# Altium footprint library connectors.PcbLib: 30 footprints (part 1 of 2)
Each footprint in its own frame and in the unit in brackets; x right, y up, seen from the top. Pads: shape width x height; smd on the part's side, far side on the other; paste and mask are expansions set on the pad; w line width, h text height; cw(c..) or ccw(c..) is an arc to the next point about the centre after c.
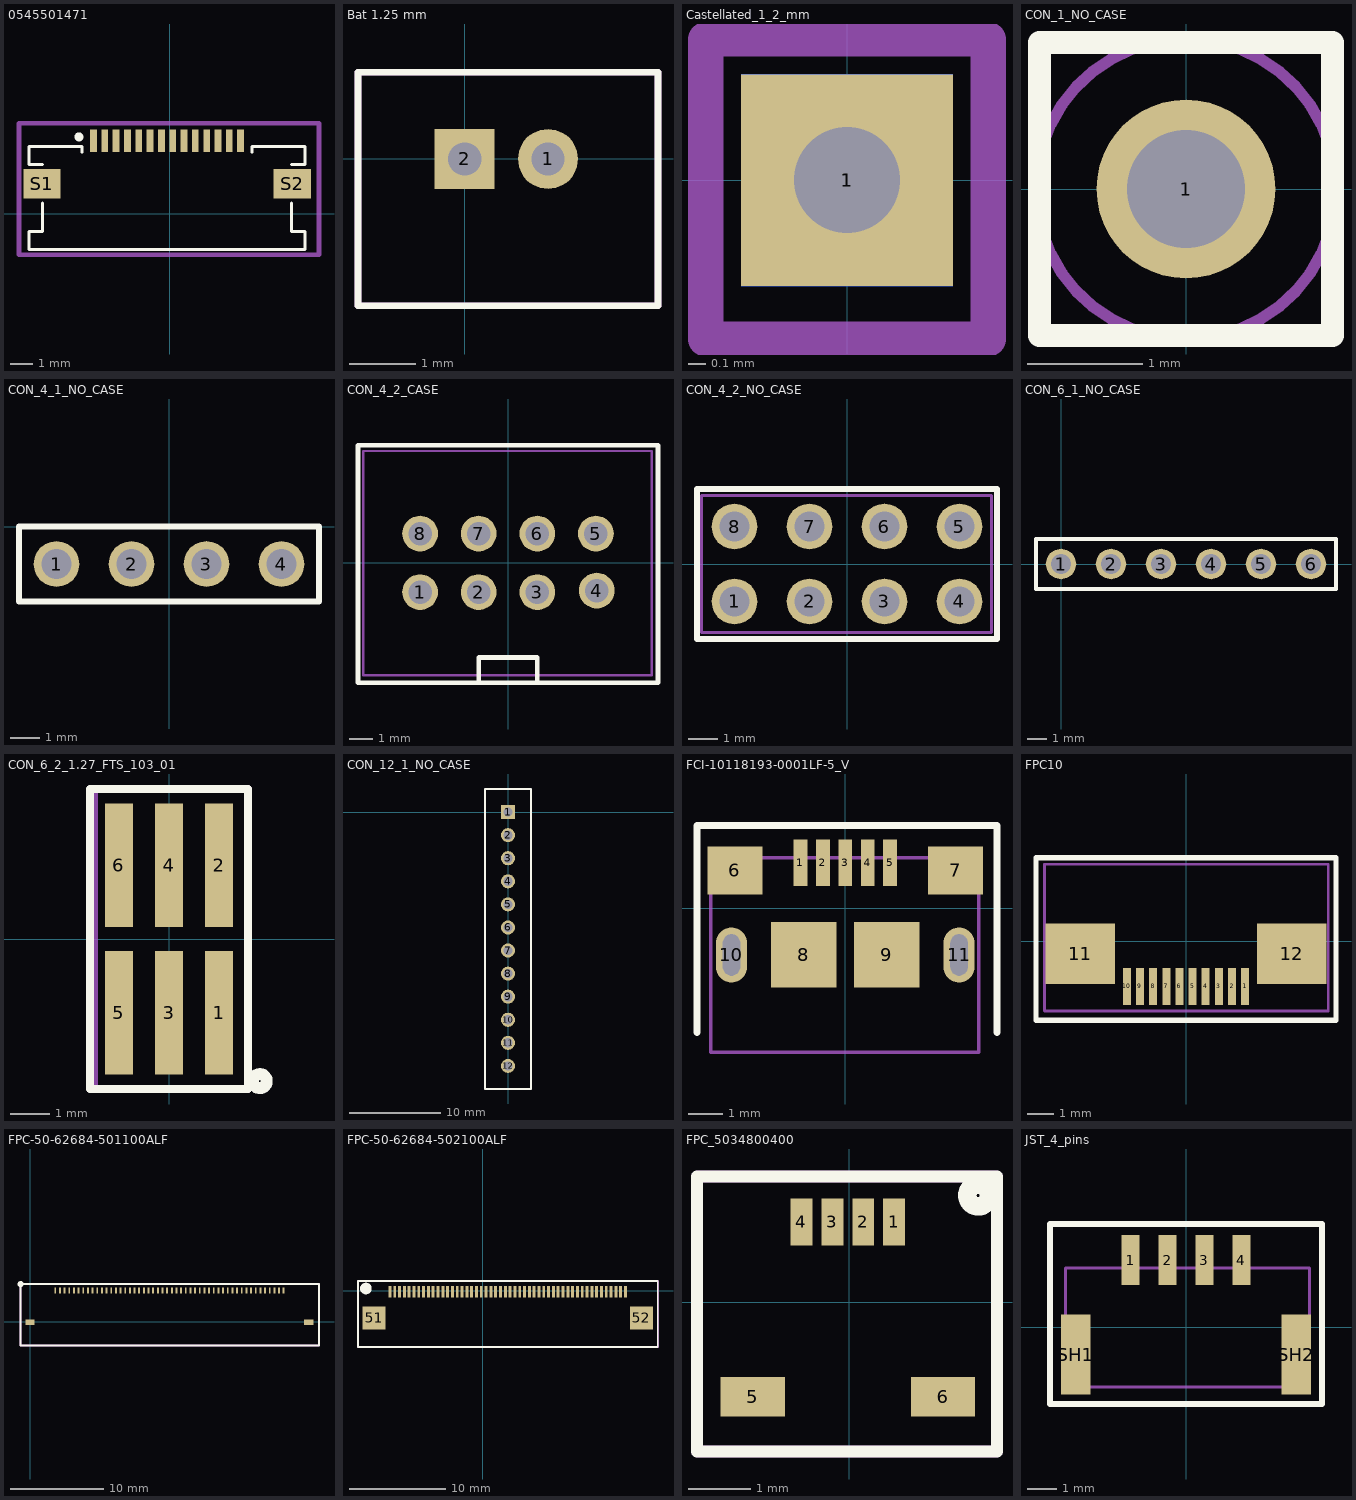
[diagram p0: the footprints below, top view; thin cyan lines are the x and y axes]

## 0545501471 [mm] "CONN FFC TOP 14POS 0.50MM R/A"
pads (16):
  rect 0.3x1 smd: 1(-3.362,3.224) 2(-2.862,3.224) 3(-2.362,3.224) 4(-1.862,3.224) 5(-1.362,3.224) 6(-0.862,3.224) 7(-0.362,3.224) 8(0.138,3.224) 9(0.638,3.224) 10(1.138,3.224) 11(1.638,3.224) 12(2.138,3.224) 13(2.638,3.224) 14(3.138,3.224)
  rect 1.65x1.3 smd: S1(-5.637,1.324) S2(5.413,1.324)
Top Overlay:
  circle w0.2: c-4,3.4 r0.1
  lines w0.127: -5.612,0.474 -5.612,-0.776 -6.212,-0.776 -6.212,-1.576 5.988,-1.576 5.988,-0.776 5.388,-0.776 5.388,0.474 ; -5.612,2.174 -6.212,2.174 -6.212,2.974 -3.862,2.974 -3.862,2.724 ; 3.638,2.724 3.638,2.974 5.988,2.974 5.988,2.174 5.388,2.174
Top Assembly:
  lines w0.2: -6.65,-1.8 6.6,-1.8 6.6,4 -6.65,4 -6.65,-1.8
  text ".Designator" at -4.5,0.4 h0.89
3D body "545501471.stp": height 1.2, standoff 0, extent -6.2,-1.65 6,3.35

## Bat 1.25 mm [mm] "JST LiPo Connector"
pads (2):
  round 0.9 hole 0.5: 1(1.25,0)
  rect 0.9x0.9 hole 0.5: 2(0,0)
Top Overlay:
  lines w0.1: -1.6,-2.2 -1.6,1.3 2.9,1.3 2.9,-2.2 -1.6,-2.2
Top Assembly:
  lines w0.1: -1.6,-2.2 -1.6,1.3 2.9,1.3 2.9,-2.2 -1.6,-2.2
  text ".Designator" at -0.9,-0.7 h0.89
3D body "530470210.stp": height 4.28, standoff -2.22, extent -1.475,-2.025 2.775,1.175

## Castellated_1_2_mm [mm] "Castellated 0.6 mm hole 1.2mm pad"
pads (2):
  rect 1.2x1.2 smd: 1(0,0)
  rect 1.2x1.2 smd far side: 1(0,0)
via 0,0 diameter 1.2 hole 0.6
Top Assembly:
  lines w0.2: -0.8,-0.9 -0.8,0.8 0.8,0.8 0.8,-0.9 -0.8,-0.9
  text ".Designator" at -0.4,-0.3 h0.89

## CON_1_NO_CASE [mm]
pads (1):
  round 1.55 hole 1.02: 1(0,0)
Top Overlay:
  lines w0.2: -1.27,-1.27 1.27,-1.27 1.27,1.27 -1.27,1.27 -1.27,-1.27
Top Assembly:
  circle w0.1: c0,0 r1.3
  text ".Designator" at -1,-0.2 h0.89

## CON_4_1_NO_CASE [mm] "connector 1 row 4 col (4 pos) 2.54 pitch"
pads (4):
  round 1.55 hole 1.02: 1(-3.81,-1.27) 2(-1.27,-1.27) 3(1.27,-1.27) 4(3.81,-1.27)
Top Overlay:
  lines w0.2: -5.08,-2.54 5.08,-2.54 5.08,0 -5.08,0 -5.08,-2.54
Top Assembly:
  lines w0.1: -5.08,-2.54 5.08,-2.54 5.08,0 -5.08,0 -5.08,-2.54
  text ".Designator" at -3.048,-1.524 h0.89

## CON_4_2_CASE [mm] "connector 2 row 4 col (8 pos) 2.54 pitch"
pads (8):
  round 1.55 hole 1.02: 1(-3.81,-1.27) 2(-1.27,-1.27) 3(1.27,-1.27) 4(3.846,-1.201) 5(3.81,1.27) 6(1.27,1.27) 7(-1.27,1.27) 8(-3.81,1.27)
Top Overlay:
  lines w0.2: -1.27,-5.116 -1.27,-4.1 1.27,-4.1 1.27,-5.116 ; -6.5,-5.2 -6.5,5.1 6.5,5.1 6.5,-5.2 -6.5,-5.2
Top Assembly:
  lines w0.1: -6.275,-4.875 6.225,-4.875 6.225,4.85 -6.275,4.85 -6.275,-4.875
  text ".Designator" at -3.85,-0.3 h0.89
3D body "901301208.stp": height 10.91, standoff -2.89, extent -6.266,-4.889 6.234,4.861

## CON_4_2_NO_CASE [mm] "connector 2 row 4 col (8 pos) 2.54 pitch"
pads (8):
  round 1.55 hole 1.02: 1(-3.81,-1.27) 2(-1.27,-1.27) 3(1.27,-1.27) 4(3.81,-1.27) 5(3.81,1.27) 6(1.27,1.27) 7(-1.27,1.27) 8(-3.81,1.27)
Top Overlay:
  lines w0.2: -5.08,-2.54 -5.08,2.54 5.08,2.54 5.08,-2.54 -5.08,-2.54
Top Assembly:
  lines w0.1: -4.925,-2.325 -4.925,2.325 4.9,2.325 4.9,-2.325 -4.925,-2.325
  text ".Designator" at -3.7,-0.3 h0.89

## CON_6_1_NO_CASE [mm] "connector 1 row 6 col (6 pos) 2.54 pitch"
pads (6):
  round 1.55 hole 1.02: 1(0,0) 2(2.54,0) 3(5.08,0) 4(7.62,0) 5(10.16,0) 6(12.7,0)
Top Overlay:
  lines w0.2: -1.27,-1.27 -1.27,1.27 13.97,1.27 13.97,-1.27 -1.27,-1.27
Top Assembly:
  lines w0.1: -1.27,-1.27 13.97,-1.27 13.97,1.27 -1.27,1.27 -1.27,-1.27
  text ".Designator" at 1.7,-0.35 h0.89

## CON_6_2_1.27_FTS_103_01 [mil] "CONN HEADER SMD 6POS 1.27MM"
pads (6):
  rect 28x123 smd paste+0 mask+0: 1(50,-73.5) 2(50,73.5) 3(0,-73.5) 4(0,73.5) 5(-50,-73.5) 6(-50,73.5)
Top Overlay:
  circle w11.81: c90.55,-141.73 r6.96
  lines w7.87: -78.74,-149.61 -78.74,149.61 78.74,149.61 78.74,-149.61 -78.74,-149.61
Top Assembly:
  lines w7.87: -74.8,-149.61 78.74,-149.61 78.74,149.61 -74.8,149.61 -74.8,-149.61
  text ".Designator" at -35.43,-35.43 h35
3D body "CON6_2X3_SU_FTS_SAI.step": height 170, standoff 0, extent -74.99,-122.98 75,123

## CON_12_1_NO_CASE [mm] "connector 1 row 12 col (12 positions) 2.54 pitch"
pads (12):
  rect 1.55x1.55 hole 1.02: 1(0,0)
  round 1.55 hole 1.02: 2(0,-2.54) 3(0,-5.08) 4(0,-7.62) 5(0,-10.16) 6(0,-12.7) 7(0,-15.24) 8(0,-17.78) 9(0,-20.32) 10(0,-22.86) 11(0,-25.4) 12(0,-27.94)
Top Overlay:
  lines w0.2: -2.54,-30.48 2.54,-30.48 2.54,2.54 -2.54,2.54 -2.54,-30.48
Top Assembly:
  lines w0.1: -2.54,-30.48 2.54,-30.48 2.54,2.54 -2.54,2.54 -2.54,-30.48
  text ".Designator" at 0,-10.16 h0.89

## FCI-10118193-0001LF-5_V [mm] "Micro, USB-B, 5-Leads, Body 7.86x5.05mm, Pitch 0.65 mm"
pads (11):
  rect 0.4x1.35 smd: 1(-1.3,1.325) 2(-0.65,1.325) 3(0,1.325) 4(0.65,1.325) 5(1.3,1.325)
  rect 1.6x1.4 smd: 6(-3.2,1.1) 7(3.2,1.1)
  rect 1.9x1.9 smd: 8(-1.2,-1.35) 9(1.2,-1.35)
  oval 0.9x1.6 hole 0.5 slot 1.2 at 90 deg: 10(-3.3,-1.35) 11(3.3,-1.35)
Top Overlay:
  lines w0.2: -4.3,-3.6 -4.3,2.4 4.4,2.4 4.4,-3.6
Top Assembly:
  lines w0.1: -3.9,-4.175 3.875,-4.175 3.875,1.475 -3.9,1.475 -3.9,-4.175
  text ".Designator" at -2.225,-1.15 h0.89
3D body "10118193-0001lfc.stp": height 2.83, standoff -0.77, extent -3.928,-4.16 3.929,1.5

## FPC10 [mil]
pads (12):
  rect 12x55 smd: 1(88.58,-67.5) 2(68.9,-67.5) 3(49.21,-67.5) 4(29.53,-67.5) 5(9.84,-67.5) 6(-9.84,-67.5) 7(-29.53,-67.5) 8(-49.21,-67.5) 9(-68.9,-67.5) 10(-88.58,-67.5)
  rect 104x91 smd: 11(-158.5,-18.5) 12(158.5,-18.5)
Top Overlay:
  lines w7.87: -224.41,-118.11 -224.41,125 224.41,125 224.41,-118.11 -224.41,-118.11
Top Assembly:
  lines w3.94: -211.61,-104.33 -211.61,115 212.6,115 212.6,-104.33 -211.61,-104.33
  text ".Designator" at -124.02,-10.83 h35
3D body "ssfv10r_2stlf.stp": height 71.65, standoff -1.97, extent -206.7,-82.92 206.69,110

## FPC-50-62684-501100ALF [mil] "CONN FPC BOTTOM 50POS 0.50MM R/A"
pads (52):
  rect 8x24 smd paste+0 mask+0: 1(106.3,133.07) 2(125.98,133.07) 3(145.67,133.07) 4(165.35,133.07) 5(185.04,133.07) 6(204.72,133.07) 7(224.41,133.07) 8(244.09,133.07) 9(263.78,133.07) 10(283.46,133.07) 11(303.15,133.07) 12(322.83,133.07) 13(342.52,133.07) 14(362.2,133.07) 15(381.89,133.07) 16(401.57,133.07) 17(421.26,133.07) 18(440.94,133.07) 19(460.63,133.07) 20(480.31,133.07) 21(500,133.07) 22(519.68,133.07) 23(539.37,133.07) 24(559.05,133.07) 25(578.74,133.07) 26(598.42,133.07) 27(618.11,133.07) 28(637.8,133.07) 29(657.48,133.07) 30(677.17,133.07) 31(696.85,133.07) 32(716.54,133.07) 33(736.22,133.07) 34(755.91,133.07) 35(775.59,133.07) 36(795.28,133.07) 37(814.96,133.07) 38(834.65,133.07) 39(854.33,133.07) 40(874.02,133.07) 41(893.7,133.07) 42(913.39,133.07) 43(933.07,133.07) 44(952.76,133.07) 45(972.44,133.07) 46(992.13,133.07) 47(1011.81,133.07) 48(1031.5,133.07) 49(1051.18,133.07) 50(1070.87,133.07)
  rect 39x24 smd: 51(0,-0.98) 52(1177.16,-0.98)
Top Overlay:
  circle w11.81: c-40,160 r6.96
  lines w7.87: -40,-100 1220,-100 1220,160 -40,160 -40,-100
Top Assembly:
  lines w7.87: -40,-100 -40,160 1220,160 1220,-100 -40,-100
  text ".Designator" at 60,0 h35
3D body "s62684_501100alf.stp": height 81.1, standoff 0, extent -11.8,-84.64 1188.98,137.41

## FPC-50-62684-502100ALF [mil] "Amphenol CONN FPC TOP 50POS 0.50MM R/A"
pads (52):
  rect 12x47 smd paste+0 mask+0: 1(-380.17,-5.22) 2(-360.48,-5.22) 3(-340.8,-5.22) 4(-321.11,-5.22) 5(-301.43,-5.22) 6(-281.74,-5.22) 7(-262.06,-5.22) 8(-242.37,-5.22) 9(-222.69,-5.22) 10(-203,-5.22) 11(-183.31,-5.22) 12(-163.63,-5.22) 13(-143.94,-5.22) 14(-124.26,-5.22) 15(-104.57,-5.22) 16(-84.89,-5.22) 17(-65.2,-5.22) 18(-45.52,-5.22) 19(-25.83,-5.22) 20(-6.15,-5.22) 21(13.54,-5.22) 22(33.22,-5.22) 23(52.91,-5.22) 24(72.59,-5.22) 25(92.28,-5.22) 26(111.96,-5.22) 27(131.65,-5.22) 28(151.33,-5.22) 29(171.02,-5.22) 30(190.7,-5.22) 31(210.39,-5.22) 32(230.07,-5.22) 33(249.76,-5.22) 34(269.44,-5.22) 35(289.13,-5.22) 36(308.81,-5.22) 37(328.5,-5.22) 38(348.18,-5.22) 39(367.87,-5.22) 40(387.55,-5.22) 41(407.24,-5.22) 42(426.92,-5.22) 43(446.61,-5.22) 44(466.29,-5.22) 45(485.98,-5.22) 46(505.66,-5.22) 47(525.35,-5.22) 48(545.03,-5.22) 49(564.72,-5.22) 50(584.4,-5.22)
  rect 94x94 smd: 51(-444.88,-111.22) 52(649.12,-111.22)
Top Overlay:
  circle w23.62: c-478.35,8.86 r11.85
  lines w7.87: -510.83,-231.3 -510.83,40.35 716.54,40.35 716.54,-231.3 -510.83,-231.3
Top Assembly:
  lines w7.87: -510.83,-231.3 717.52,-231.3 717.52,39.37 -510.83,39.37 -510.83,-231.3
  text ".Designator" at -233.27,-133.86 h118.11
3D body "s62684-502100alf.stp": height 78.74, standoff -1.97, extent -498.03,-215.55 702.76,4.92

## FPC_5034800400 [mil] "CONN FFC FPC 4POS 0.50MM R/A"
pads (6):
  rect 14x30 smd paste+0 mask+0: 1(28.53,51.19) 2(8.84,51.19) 3(-10.84,51.19) 4(-30.53,51.19)
  rect 41x25 smd paste+0 mask+0: 5(-61.63,-60.14) 6(59.63,-60.14)
Top Overlay:
  circle w11.81: c82,68 r6.96
  lines w7.87: -97,-95 -97,80 94,80 94,-95 -97,-95
Top Assembly:
  lines w7.87: -97,-95 94,-95 94,80 -97,80 -97,-95
  text ".Designator" at -55,-15 h35
3D body "5034800400.stp": height 72.72, standoff -0.79, extent -72.84,-84.73 72.84,57

## JST_4_pins [mm]
pads (6):
  rect 0.6x1.7 smd: 1(-1.875,2.275) 2(-0.625,2.275) 3(0.625,2.275) 4(1.875,2.275)
  rect 1x2.7 smd: SH1(-3.725,-0.925) SH2(3.725,-0.925)
Top Overlay:
  lines w0.2: -4.6,-2.6 4.6,-2.6 4.6,3.5 -4.6,3.5 -4.6,-2.6
Top Assembly:
  lines w0.1: -4.075,-2.025 4.175,-2.025 4.175,2 -4.075,2 -4.075,-2.025
  text ".Designator" at -2.85,0 h0.89
3D body "SM04B-GHS-TB(LF)(SN)---3DModel-STEP-56544.STEP": height 4.35, standoff 0, extent -4.125,-2.032 4.125,2.818